# Altium integrated library Connect_Board.IntLib: 3 symbols
Pins are listed as number, name and electrical type; pins without a type are passive.

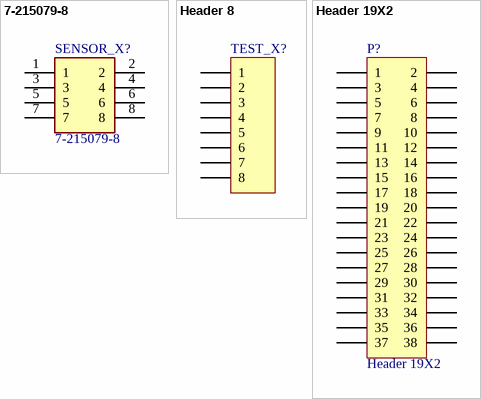
[diagram p0: symbols 7-215079-8 to Header 19X2]

## 7-215079-8
designator SENSOR_X?
Connector; Manufacturer_Name: TE Connectivity; Allied_Number: 70346681; Datasheet Link: http://www.farnell.com/datasheets/1699417.pdf; Manufacturer_Part_Number: 7-215079-8; Mouser Part Number: 571-7-215079-8; Mouser Price/Stock: https://www.mouser.com/Search/Refine.aspx?Keyword=571-7-215079-8; RS Part Number: 3018032P; RS Price/Stock: http://uk.rs-online.com/web/p/products/3018032P; Allied Price/Stock: http://www.alliedelec.com/te-connectivity-7-215079-8/70346681/
footprint 7-215079-8
pins: 1, 2, 3, 4, 5, 6, 7, 8

## Header 8
designator TEST_X?  (value not drawn)
Header, 8-Pin; LatestRevisionDate: 17-Jul-2002; LatestRevisionNote: Re-released for DXP Platform.; Publisher: Altium Limited
footprint HDR1X8 (Connector; Header; 8 Position)
signal-integrity model Connector
pins: 1, 2, 3, 4, 5, 6, 7, 8

## Header 19X2
designator P?
Header, 19-Pin, Dual row; LatestRevisionDate: 17-Jul-2002; LatestRevisionNote: Re-released for DXP Platform.; Publisher: Altium Limited
footprint HDR2X19 (Connector; Header; 19x2 Position)
signal-integrity model Connector
pins: 1, 2, 3, 4, 5, 6, 7, 8, 9, 10, 11, 12, 13, 14, 15, 16, 17, 18, 19, 20, 21, 22, 23, 24, 25, 26, 27, 28, 29, 30, 31, 32, 33, 34, 35, 36, 37, 38